# EAGLE library part PINHEAD_1X09 (library pinhead)
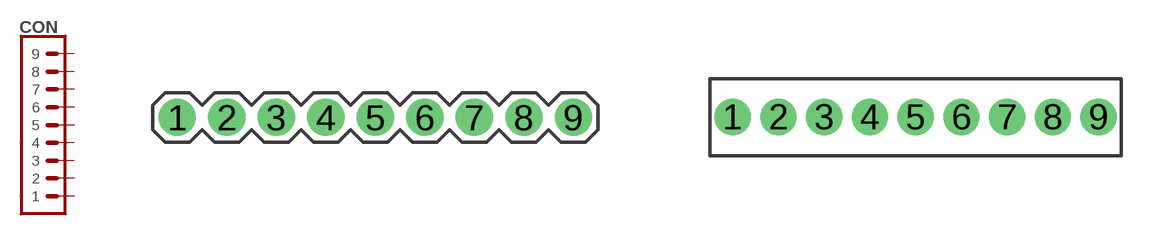
[diagram p29: symbol with the pads of PLS2-9; footprints PLS2-9, 1X09-PTH-1.27]

Designator prefix CON

## PINHEAD_1X09-2  [PLS2-9]
1  1  pas
2  2  pas
3  3  pas
4  4  pas
5  5  pas
6  6  pas
7  7  pas
8  8  pas
9  9  pas

## PINHEAD_1X09-1.27  [1X09-PTH-1.27]
Pads as for PLS2-9

## PINHEAD_1X09-2.54-TH-MALE  [PLS9]
Pads as for PLS2-9

## Footprint PLS2-9 (pad centres in mm)
3D model <https://grabcad.com/library/pls2-connectors-1>
drill 0.8 pad 1.5: 1 -8,0; 2 -6,0; 3 -4,0; 4 -2,0; 5 0,0; 6 2,0; 7 4,0; 8 6,0; 9 8,0

## Footprint 1X09-PTH-1.27 (pad centres in mm)
drill 0.5 pad 1: 1 -5.08,0; 2 -3.81,0; 3 -2.54,0; 4 -1.27,0; 5 0,0; 6 1.27,0; 7 2.54,0; 8 3.81,0; 9 5.08,0

## Footprint PLS9 (pad centres in mm)
3D model <https://grabcad.com/library/pls-connectors-1>
drill 1.016 pad 1.88: 1 -10.16,0; 2 -7.62,0; 3 -5.08,0; 4 -2.54,0; 5 0,0; 6 2.54,0; 7 5.08,0; 8 7.62,0; 9 10.16,0